# EAGLE library part BMD-340-A-R (library shepherd)
Bluetooth Low Energy 5.0 Module
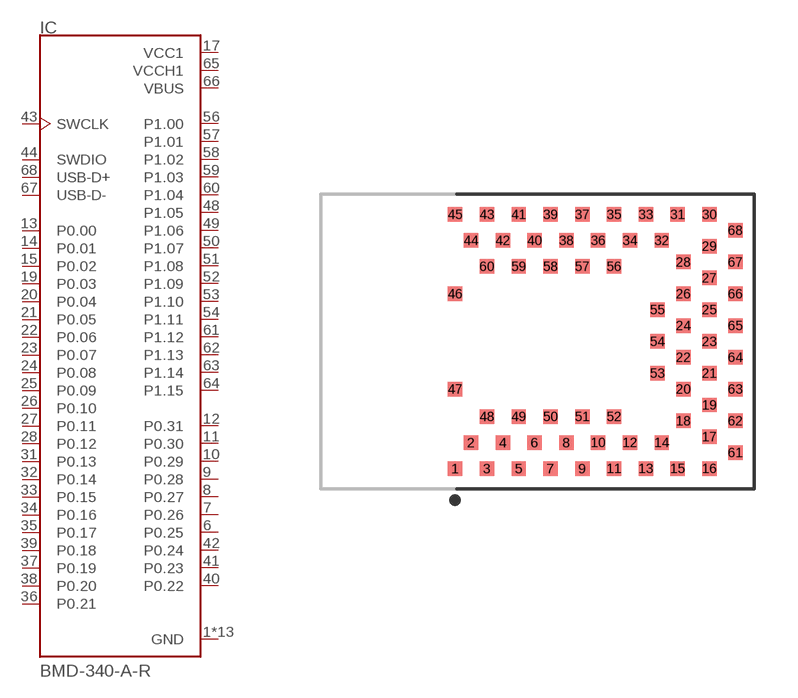
[diagram p34: symbol with the pads of RIGADO_BMD-340-A-R; footprint RIGADO_BMD-340-A-R]

Designator prefix IC

## BMD-340-A-R (DESCRIPTION: Bluetooth Low Energy 5.0 Module; MF: Rigado; MP: BMD-340-A-R; PACKAGE: None)  [RIGADO_BMD-340-A-R]
1  GND  pwr
2  GND  pwr
3  GND  pwr
4  GND  pwr
5  GND  pwr
6  P0.25
7  P0.26
8  P0.27
9  P0.28
10  P0.29
11  P0.30
12  P0.31
13  P0.00
14  P0.01
15  P0.02
16  GND  pwr
17  VCC1  pwr
18  GND  pwr
19  P0.03
20  P0.04
21  P0.05
22  P0.06
23  P0.07
24  P0.08
25  P0.09
26  P0.10
27  P0.11
28  P0.12
29  GND  pwr
30  GND  pwr
31  P0.13
32  P0.14
33  P0.15
34  P0.16
35  P0.17
36  P0.21
37  P0.19
38  P0.20
39  P0.18
40  P0.22
41  P0.23
42  P0.24
43  SWCLK  in
44  SWDIO
45  GND  pwr
46  GND  pwr
47  GND  pwr
48  P1.05
49  P1.06
50  P1.07
51  P1.08
52  P1.09
53  P1.10
54  P1.11
55  GND  pwr
56  P1.00
57  P1.01
58  P1.02
59  P1.03
60  P1.04
61  P1.12
62  P1.13
63  P1.14
64  P1.15
65  VCCH1  pwr
66  VBUS  pwr
67  USB-D-
68  USB-D+

## Footprint RIGADO_BMD-340-A-R (pad centres in mm)
smd 0.5 x 0.5: 1 -2.85,-4.4; 2 -2.3,-3.5; 3 -1.75,-4.4; 4 -1.2,-3.5; 5 -0.65,-4.4; 6 -0.1,-3.5; 7 0.45,-4.4; 8 1,-3.5; 9 1.55,-4.4; 10 2.1,-3.5; 11 2.65,-4.4; 12 3.2,-3.5; 13 3.75,-4.4; 14 4.3,-3.5; 15 4.85,-4.4; 16 5.95,-4.4; 17 5.95,-3.3; 18 5.05,-2.75; 19 5.95,-2.2; 20 5.05,-1.65; 21 5.95,-1.1; 22 5.05,-0.55; 23 5.95,0; 24 5.05,0.55; 25 5.95,1.1; 26 5.05,1.65; 27 5.95,2.2; 28 5.05,2.75; 29 5.95,3.3; 30 5.95,4.4; 31 4.85,4.4; 32 4.3,3.5; 33 3.75,4.4; 34 3.2,3.5; 35 2.65,4.4; 36 2.1,3.5; 37 1.55,4.4; 38 1,3.5; 39 0.45,4.4; 40 -0.1,3.5; 41 -0.65,4.4; 42 -1.2,3.5; 43 -1.75,4.4; 44 -2.3,3.5; 45 -2.85,4.4; 46 -2.85,1.65; 47 -2.85,-1.65; 48 -1.75,-2.6; 49 -0.65,-2.6; 50 0.45,-2.6; 51 1.55,-2.6; 52 2.65,-2.6; 53 4.15,-1.1; 54 4.15,0; 55 4.15,1.1; 56 2.65,2.6; 57 1.55,2.6; 58 0.45,2.6; 59 -0.65,2.6; 60 -1.75,2.6; 61 6.85,-3.85; 62 6.85,-2.75; 63 6.85,-1.65; 64 6.85,-0.55; 65 6.85,0.55; 66 6.85,1.65; 67 6.85,2.75; 68 6.85,3.85